# EAGLE library part MAX891L (library maxim)
P-Channel Switches Thermal Shutdown, Current-Limited, High-Side
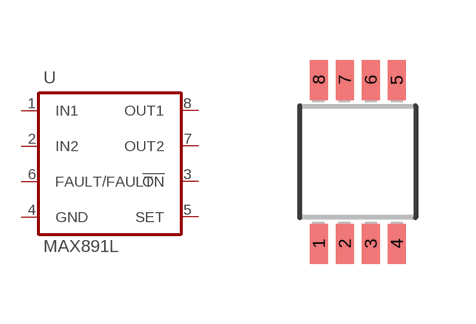
[diagram p395: symbol with the pads of MSOP8; footprint MSOP8]

Designator prefix U

## MAX891L (P1I: o)  [MSOP8]
1  IN1
2  IN2
3  !ON!  in
4  GND  pwr
5  SET  pas
6  FAULT/FAULT  out
7  OUT2  pas
8  OUT1  pwr

## Footprint MSOP8 (pad centres in mm)
Micro Small Outline Package
smd 0.45 x 1: 1 -0.975,-2.05; 2 -0.325,-2.05; 3 0.325,-2.05; 4 0.975,-2.05; 5 0.975,2.05; 6 0.325,2.05; 7 -0.325,2.05; 8 -0.975,2.05